# EAGLE library part I7C4W012A050V-001-R (library I7C4W012A050V-001-R)
Check prices <https://pricing.snapeda.com/parts/I7C4W012A050V-001-R/TDK-Lambda%20Americas%20Inc/view-part?ref=eda>
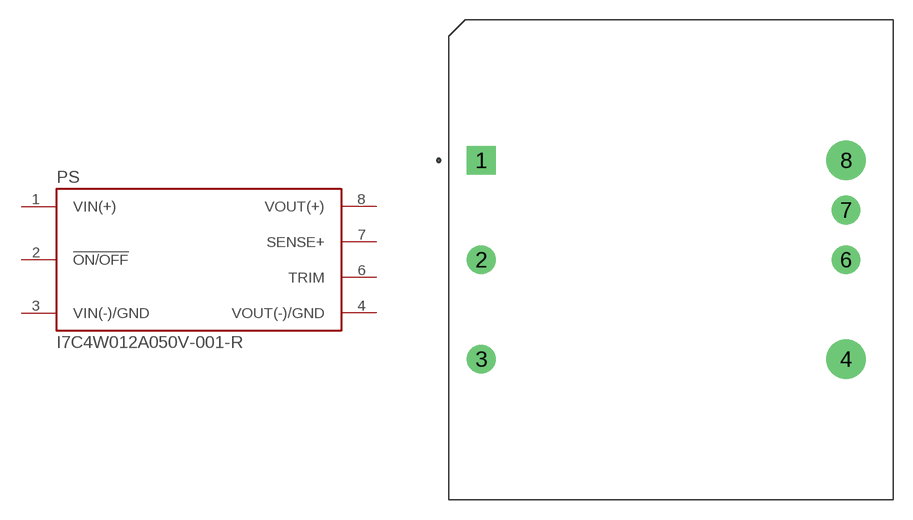
[diagram p0: symbol with the pads of CONV_I7C4W012A050V-001-R; footprint CONV_I7C4W012A050V-001-R]

Designator prefix PS

## I7C4W012A050V-001-R (Availability: In Stock; Description: Non-Isolated PoL Module DC DC Converter 1 Output 5 ~ 28V 12.5A 9V - 53V Input; MF: TDK-Lambda Americas Inc; MP: I7C4W012A050V-001-R; Package: SMD-10 TDK-Lambda; Price: None; Purchase-URL: https://pricing.snapeda.com/search/part/I7C4W012A050V-001-R/?ref=eda)  [CONV_I7C4W012A050V-001-R]
1  VIN(+)  in
2  !ON/OFF  in
3  VIN(-)/GND  in
4  VOUT(-)/GND  out
6  TRIM  pas
7  SENSE+  in
8  VOUT(+)  out

## Footprint CONV_I7C4W012A050V-001-R (pad centres in mm)
drill 1.47 square: 1 -13.97,7.615
drill 1.47: 2 -13.97,-0.005; 3 -13.97,-7.625; 6 13.97,-0.005; 7 13.97,3.805
drill 2.02: 4 13.97,-7.625; 8 13.97,7.615